# Altium schematic symbol library SCH - CONNECTORS - WURTH - 7499021125.Schlib: 1 symbol
Pins are listed as number, name and electrical type; pins without a type are passive.

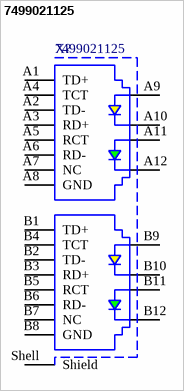
[diagram p0: symbol 7499021125]

## 7499021125
designator X?
7499021125 Telecom and Datacom Connector, 16 Contact(s), Female, Right Angle, Solder Terminal
pins: A1 TD+, A2 TD-, A3 RD+, A4 TCT, A5 RCT, A6 RD-, A7 NC, A8 GND, A9, A10, A11, A12, B1 TD+, B2 TD-, B3 RD+, B4 TCT, B5 RCT, B6 RD-, B7 NC, B8 GND, B9, B10, B11, B12, Shell Shield